# Altium schematic symbol library Separated optocouplers, including multichannel.SchLib: 5 symbols
Pins are listed as number, name and electrical type; pins without a type are passive.

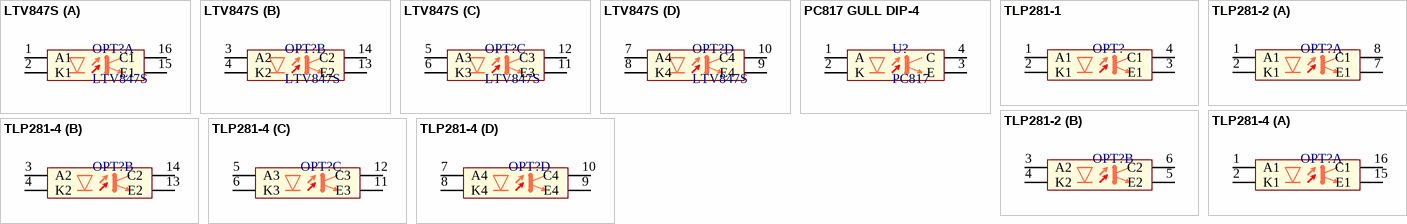
[diagram p0: symbols LTV847S to TLP281-4]

## LTV847S
designator OPT?
4 separate optopairs GULL DIP-16; Supplier 1: Digi-Key; Supplier Part Number 1: 160-1371-5-ND
footprint GULL DIP-16 (SMT DIP 16 package)
part A pins: 1 A1, 2 K1, 15 E1, 16 C1
part B pins: 3 A2, 4 K2, 13 E2, 14 C2
part C pins: 5 A3, 6 K3, 11 E3, 12 C3
part D pins: 7 A4, 8 K4, 9 E4, 10 C4

## PC817 GULL DIP-4
designator U?, comment PC817
PC817 GULL DIP-4; Supplier 1: Digi-Key; Supplier 2: Digi-Key; Supplier 3: Digi-Key; Supplier 4: Digi-Key; Supplier 5: Digi-Key; Supplier Part Number 1: 425-2773-6-ND; Supplier Part Number 2: 425-2881-1-ND; Supplier Part Number 3: 425-2774-1-ND; Supplier Part Number 4: 425-2192-1-ND; Supplier Part Number 5: 425-2882-1-ND
footprint GULL DIP-4 (Dual inline package 4 lead 2.54mm SMT)
pins: 1 A, 2 K, 3 E, 4 C

## TLP281-1
designator OPT?  (value not drawn)
1 optopair SO-16 160..180 mil; Supplier 1: Digi-Key; Supplier 2: Digi-Key; Supplier Part Number 1: TLP281-4JFDKR-ND; Supplier Part Number 2: TLP281-4(GB-TPJFCT-ND
footprint LC-SOP-4_P1.27
pins: 1 A1, 2 K1, 3 E1, 4 C1

## TLP281-2
designator OPT?  (value not drawn)
2 separate optopairs SO-8 160..180 mil; Supplier 1: Digi-Key; Supplier 2: Digi-Key; Supplier Part Number 1: TLP281-4JFDKR-ND; Supplier Part Number 2: TLP281-4(GB-TPJFCT-ND
footprint LC-SOIC-8_208mil
part A pins: 1 A1, 2 K1, 7 E1, 8 C1
part B pins: 3 A2, 4 K2, 5 E2, 6 C2

## TLP281-4
designator OPT?  (value not drawn)
4 separate optopairs SO-16 160..180 mil; Supplier 1: Digi-Key; Supplier 2: Digi-Key; Supplier Part Number 1: TLP281-4JFDKR-ND; Supplier Part Number 2: TLP281-4(GB-TPJFCT-ND
footprint LC-SOP-16_208mil
part A pins: 1 A1, 2 K1, 15 E1, 16 C1
part B pins: 3 A2, 4 K2, 13 E2, 14 C2
part C pins: 5 A3, 6 K3, 11 E3, 12 C3
part D pins: 7 A4, 8 K4, 9 E4, 10 C4